# EAGLE library part PIN1X7 (library Connector)
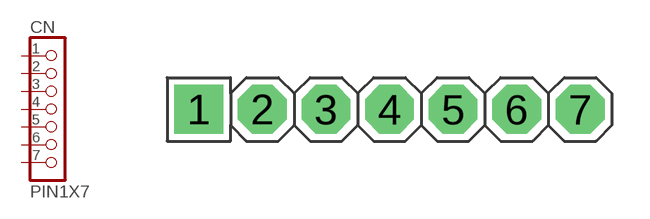
[diagram p14: symbol with the pads of PIN1X7; footprint PIN1X7]

Designator prefix CN

## PIN1X7  [PIN1X7]
1  1  pas
2  2  pas
3  3  pas
4  4  pas
5  5  pas
6  6  pas
7  7  pas

## Footprint PIN1X7 (pad centres in mm)
drill 1.3 square: 1 -7.62,0
drill 1.3 octagon: 2 -5.08,0; 3 -2.54,0; 4 0,0; 5 2.54,0; 6 5.08,0; 7 7.62,0